# EAGLE library part MY1690X-16S (library MY1690X-16S)
MY1690X-16S MP3 Player
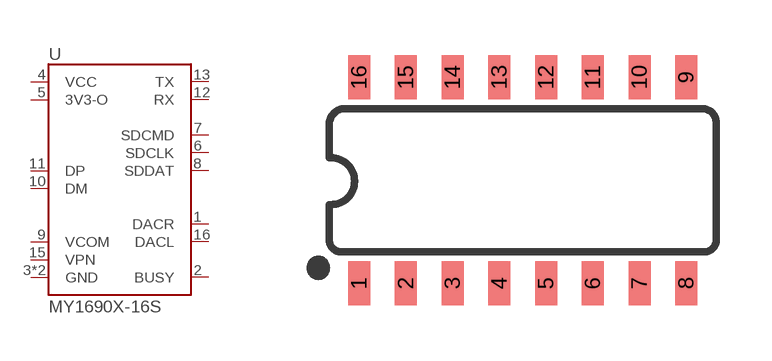
[diagram p0: symbol with the pads of SO16; footprint SO16]

Designator prefix U

## MY1690X-16S  [SO16]
1  DACR
2  BUSY
3  GND
4  VCC
5  3V3-O
6  SDCLK
7  SDCMD
8  SDDAT
9  VCOM
10  DM
11  DP
12  RX
13  TX
14  GND
15  VPN
16  DACL

## Footprint SO16 (pad centres in mm)
SOIC, 0.15 inch width
smd 0.6 x 1.2: 1 -4.445,-2.8; 2 -3.175,-2.8; 3 -1.905,-2.8; 4 -0.635,-2.8; 5 0.635,-2.8; 6 1.905,-2.8; 7 3.175,-2.8; 8 4.445,-2.8; 9 4.445,2.8; 10 3.175,2.8; 11 1.905,2.8; 12 0.635,2.8; 13 -0.635,2.8; 14 -1.905,2.8; 15 -3.175,2.8; 16 -4.445,2.8